# Altium footprint library PCB - LEADED - SOT-23-3.PCBLIB: 1 footprints
Each footprint in its own frame and in the unit in brackets; x right, y up, seen from the top. Pads: shape width x height; smd on the part's side, far side on the other; paste and mask are expansions set on the pad; w line width, h text height; cw(c..) or ccw(c..) is an arc to the next point about the centre after c.
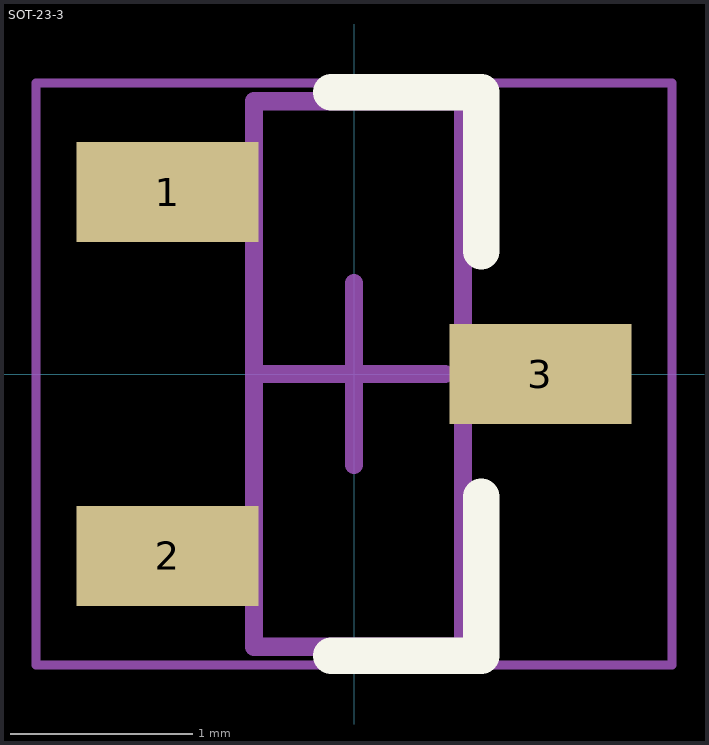
[diagram p0: the footprint, top view; thin cyan lines are the x and y axes]

## SOT-23-3 [mm] "3-pin SOT-23"
height 1.1
pads (3):
  rect 1x0.55 smd: 1(-1.025,1) 2(-1.025,-1) 3(1.025,0)
Top Overlay:
  lines w0.2: -0.125,-1.55 0.7,-1.55 0.7,-0.675 ; -0.125,1.55 0.7,1.55 0.7,0.675
Top Assembly:
  lines w0.05: -0.55,-1.2 -1.375,-1.2 -1.375,-0.8 -0.55,-0.8 ; -0.55,0.8 -1.375,0.8 -1.375,1.2 -0.55,1.2 ; 0.6,-0.2 1.375,-0.2 1.375,0.2 0.6,0.2
  lines w0.1: -0.55,-1.5 0.6,-1.5 0.6,1.5 -0.55,1.5 -0.55,-1.5
Top Courtyard:
  lines w0.05: -1.75,-1.6 1.75,-1.6 1.75,1.6 -1.75,1.6 -1.75,-1.6
Top Designator:
  text ".Designator" at 0.4,-1.224 h0.76
Top Component Center:
  lines w0.1: -0.5,0 0.5,0 ; 0,-0.5 0,0.5
3D body "User Library-SOT-23-3-1.STEP": height 1.1, standoff 0, extent -1.247,-1.5 1.295,1.5